# EAGLE library part MEGAARDUINO_1 (library Arduino)
The Arduino Mega is a microcontroller board based on the ATmega1280. - 54 digital input/output pins (of which 14 can be used as PWM outputs) - 16 analog inputs - 4 UARTs (hardware serial ports) - 16 MHz crystal oscillator - USB connection - power jack - ICSP header - reset button It contains everything needed to support the microcontroller; simply connect it to a computer with a USB cable or power it with a AC-to-DC adapter or battery to get started. The Mega is compatible with most shields designed for the Arduino Duemilanove or Diecimila. http://arduino.cc/en/Main/ArduinoBoardMega
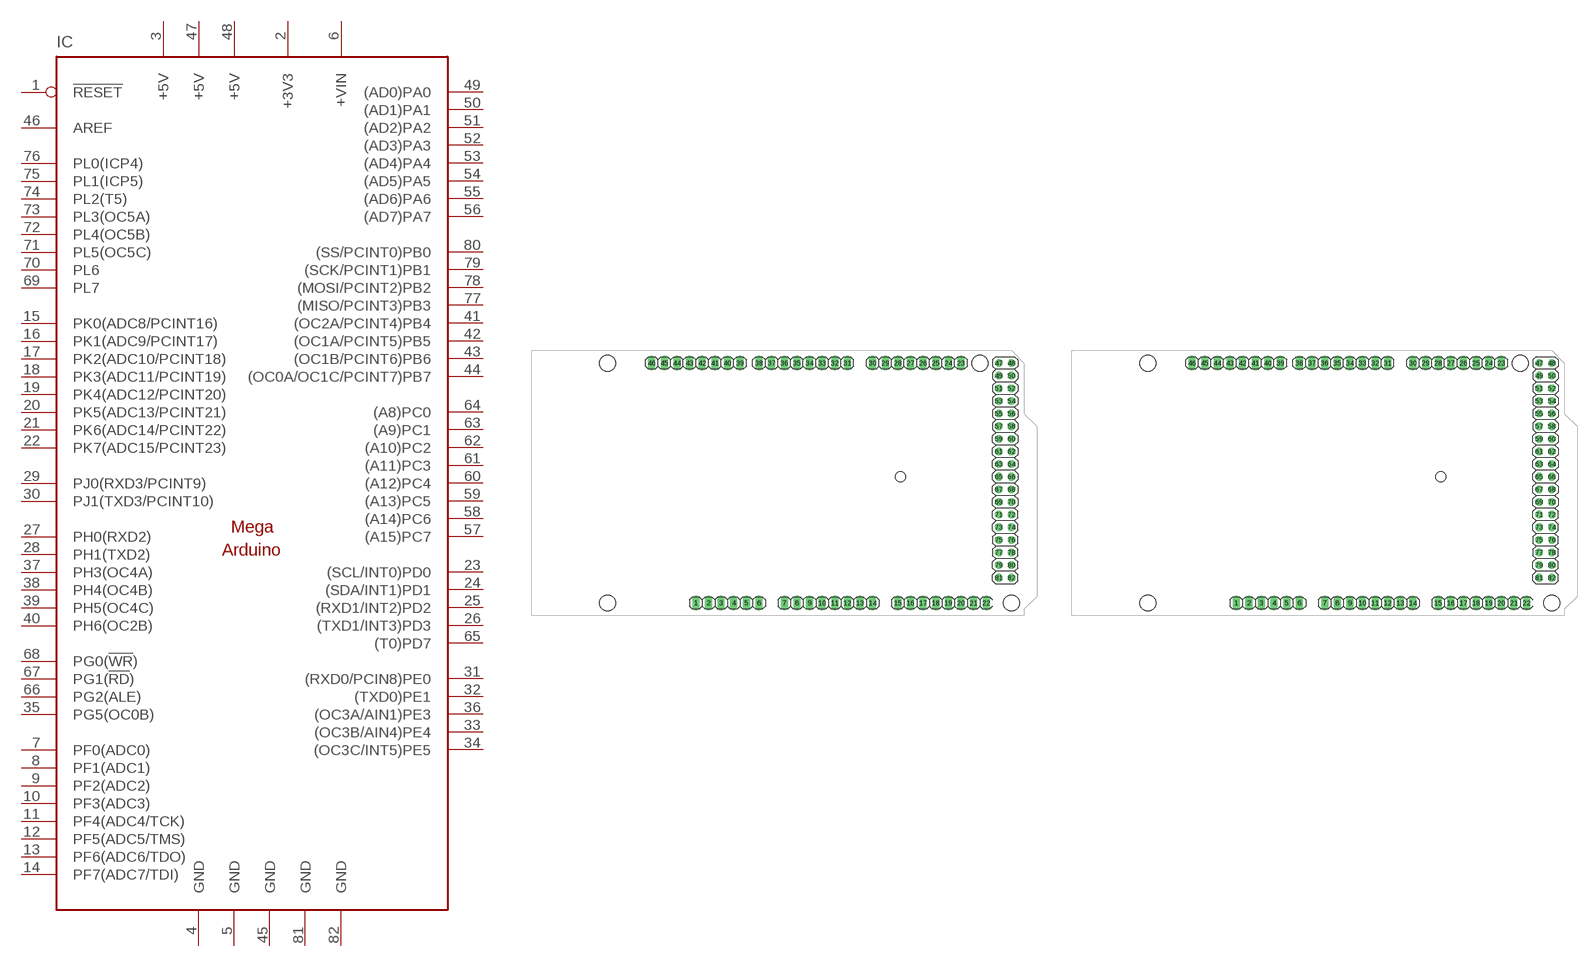
[diagram p4: symbol with the pads of MEGA_ARDUINO; footprints MEGA_ARDUINO, MEGA_ARDUINO_1]

Designator prefix IC

## MEGAARDUINO_1  [MEGA_ARDUINO]
1  !RESET
2  +3V3  pwr
3  +5V  pwr
4  GND  pwr
5  GND  pwr
6  +VIN  pwr
7  PF0(ADC0)
8  PF1(ADC1)
9  PF2(ADC2)
10  PF3(ADC3)
11  PF4(ADC4/TCK)
12  PF5(ADC5/TMS)
13  PF6(ADC6/TDO)
14  PF7(ADC7/TDI)
15  PK0(ADC8/PCINT16)
16  PK1(ADC9/PCINT17)
17  PK2(ADC10/PCINT18)
18  PK3(ADC11/PCINT19)
19  PK4(ADC12/PCINT20)
20  PK5(ADC13/PCINT21)
21  PK6(ADC14/PCINT22)
22  PK7(ADC15/PCINT23)
23  (SCL/INT0)PD0
24  (SDA/INT1)PD1
25  (RXD1/INT2)PD2
26  (TXD1/INT3)PD3
27  PH0(RXD2)
28  PH1(TXD2)
29  PJ0(RXD3/PCINT9)
30  PJ1(TXD3/PCINT10)
31  (RXD0/PCIN8)PE0
32  (TXD0)PE1
33  (OC3B/AIN4)PE4
34  (OC3C/INT5)PE5
35  PG5(OC0B)
36  (OC3A/AIN1)PE3
37  PH3(OC4A)
38  PH4(OC4B)
39  PH5(OC4C)
40  PH6(OC2B)
41  (OC2A/PCINT4)PB4
42  (OC1A/PCINT5)PB5
43  (OC1B/PCINT6)PB6
44  (OC0A/OC1C/PCINT7)PB7
45  GND  pwr
46  AREF
47  +5V  pwr
48  +5V  pwr
49  (AD0)PA0
50  (AD1)PA1
51  (AD2)PA2
52  (AD3)PA3
53  (AD4)PA4
54  (AD5)PA5
55  (AD6)PA6
56  (AD7)PA7
57  (A15)PC7
58  (A14)PC6
59  (A13)PC5
60  (A12)PC4
61  (A11)PC3
62  (A10)PC2
63  (A9)PC1
64  (A8)PC0
65  (T0)PD7
66  PG2(ALE)
67  PG1(!RD!)
68  PG0(!WR!)
69  PL7
70  PL6
71  PL5(OC5C)
72  PL4(OC5B)
73  PL3(OC5A)
74  PL2(T5)
75  PL1(ICP5)
76  PL0(ICP4)
77  (MISO/PCINT3)PB3
78  (MOSI/PCINT2)PB2
79  (SCK/PCINT1)PB1
80  (SS/PCINT0)PB0
81  GND  pwr
82  GND  pwr

## MEGAARDUINO_11  [MEGA_ARDUINO_1]
Pads as for MEGA_ARDUINO

## MEGAARDUINO_12  [MEGA_ARDUINO_2]
Pads as for MEGA_ARDUINO

## Footprint MEGA_ARDUINO (pad centres in mm)
drill 1.016 long: 1 33.02,2.54; 2 35.56,2.54; 3 38.1,2.54; 4 40.64,2.54; 5 43.18,2.54; 6 45.72,2.54; 7 50.8,2.54; 8 53.34,2.54; 9 55.88,2.54; 10 58.42,2.54; 11 60.96,2.54; 12 63.5,2.54; 13 66.04,2.54; 14 68.58,2.54; 15 73.66,2.54; 16 76.2,2.54; 17 78.74,2.54; 18 81.28,2.54; 19 83.82,2.54; 20 86.36,2.54; 21 88.9,2.54; 22 91.44,2.54; 23 86.36,50.8; 24 83.82,50.8; 25 81.28,50.8; 26 78.74,50.8; 27 76.2,50.8; 28 73.66,50.8; 29 71.12,50.8; 30 68.58,50.8; 31 63.5,50.8; 32 60.96,50.8; 33 58.42,50.8; 34 55.88,50.8; 35 53.34,50.8; 36 50.8,50.8; 37 48.26,50.8; 38 45.72,50.8; 39 41.91,50.8; 40 39.37,50.8; 41 36.83,50.8; 42 34.29,50.8; 43 31.75,50.8; 44 29.21,50.8; 45 26.67,50.8; 46 24.13,50.8
drill 1.016 octagon: 47 93.98,50.8; 48 96.52,50.8; 49 93.98,48.26; 50 96.52,48.26; 51 93.98,45.72; 52 96.52,45.72; 53 93.98,43.18; 54 96.52,43.18; 55 93.98,40.64; 56 96.52,40.64; 57 93.98,38.1; 58 96.52,38.1; 59 93.98,35.56; 60 96.52,35.56; 61 93.98,33.02; 62 96.52,33.02; 63 93.98,30.48; 64 96.52,30.48; 65 93.98,27.94; 66 96.52,27.94; 67 93.98,25.4; 68 96.52,25.4; 69 93.98,22.86; 70 96.52,22.86; 71 93.98,20.32; 72 96.52,20.32; 73 93.98,17.78; 74 96.52,17.78; 75 93.98,15.24; 76 96.52,15.24; 77 93.98,12.7; 78 96.52,12.7; 79 93.98,10.16; 80 96.52,10.16; 81 93.98,7.62; 82 96.52,7.62
hole 3.2 at 15.24,50.8
hole 3.2 at 15.24,2.54
hole 3.2 at 90.17,50.8
hole 3.2 at 96.52,2.54
hole 2 at 74.168,27.94

## Footprint MEGA_ARDUINO_1 (pad centres in mm)
drill 1.016 long: 1 33.02,2.54; 2 35.56,2.54; 3 38.1,2.54; 4 40.64,2.54; 5 43.18,2.54; 6 45.72,2.54; 7 50.8,2.54; 8 53.34,2.54; 9 55.88,2.54; 10 58.42,2.54; 11 60.96,2.54; 12 63.5,2.54; 13 66.04,2.54; 14 68.58,2.54; 15 73.66,2.54; 16 76.2,2.54; 17 78.74,2.54; 18 81.28,2.54; 19 83.82,2.54; 20 86.36,2.54; 21 88.9,2.54; 22 91.44,2.54; 23 86.36,50.8; 24 83.82,50.8; 25 81.28,50.8; 26 78.74,50.8; 27 76.2,50.8; 28 73.66,50.8; 29 71.12,50.8; 30 68.58,50.8; 31 63.5,50.8; 32 60.96,50.8; 33 58.42,50.8; 34 55.88,50.8; 35 53.34,50.8; 36 50.8,50.8; 37 48.26,50.8; 38 45.72,50.8; 39 41.91,50.8; 40 39.37,50.8; 41 36.83,50.8; 42 34.29,50.8; 43 31.75,50.8; 44 29.21,50.8; 45 26.67,50.8; 46 24.13,50.8
drill 1.016 octagon: 47 93.98,50.8; 48 96.52,50.8; 49 93.98,48.26; 50 96.52,48.26; 51 93.98,45.72; 52 96.52,45.72; 53 93.98,43.18; 54 96.52,43.18; 55 93.98,40.64; 56 96.52,40.64; 57 93.98,38.1; 58 96.52,38.1; 59 93.98,35.56; 60 96.52,35.56; 61 93.98,33.02; 62 96.52,33.02; 63 93.98,30.48; 64 96.52,30.48; 65 93.98,27.94; 66 96.52,27.94; 67 93.98,25.4; 68 96.52,25.4; 69 93.98,22.86; 70 96.52,22.86; 71 93.98,20.32; 72 96.52,20.32; 73 93.98,17.78; 74 96.52,17.78; 75 93.98,15.24; 76 96.52,15.24; 77 93.98,12.7; 78 96.52,12.7; 79 93.98,10.16; 80 96.52,10.16; 81 93.98,7.62; 82 96.52,7.62
hole 3.2 at 15.24,50.8
hole 3.2 at 15.24,2.54
hole 3.2 at 90.17,50.8
hole 3.2 at 96.52,2.54
hole 2 at 74.168,27.94

## Footprint MEGA_ARDUINO_2 (pad centres in mm)
drill 1.016 long: 1 33.02,2.54; 2 35.56,2.54; 3 38.1,2.54; 4 40.64,2.54; 5 43.18,2.54; 6 45.72,2.54; 7 50.8,2.54; 8 53.34,2.54; 9 55.88,2.54; 10 58.42,2.54; 11 60.96,2.54; 12 63.5,2.54; 13 66.04,2.54; 14 68.58,2.54; 15 73.66,2.54; 16 76.2,2.54; 17 78.74,2.54; 18 81.28,2.54; 19 83.82,2.54; 20 86.36,2.54; 21 88.9,2.54; 22 91.44,2.54; 23 86.36,50.8; 24 83.82,50.8; 25 81.28,50.8; 26 78.74,50.8; 27 76.2,50.8; 28 73.66,50.8; 29 71.12,50.8; 30 68.58,50.8; 31 63.5,50.8; 32 60.96,50.8; 33 58.42,50.8; 34 55.88,50.8; 35 53.34,50.8; 36 50.8,50.8; 37 48.26,50.8; 38 45.72,50.8; 39 41.91,50.8; 40 39.37,50.8; 41 36.83,50.8; 42 34.29,50.8; 43 31.75,50.8; 44 29.21,50.8; 45 26.67,50.8; 46 24.13,50.8
drill 1.016 octagon: 47 93.98,50.8; 48 96.52,50.8; 49 93.98,48.26; 50 96.52,48.26; 51 93.98,45.72; 52 96.52,45.72; 53 93.98,43.18; 54 96.52,43.18; 55 93.98,40.64; 56 96.52,40.64; 57 93.98,38.1; 58 96.52,38.1; 59 93.98,35.56; 60 96.52,35.56; 61 93.98,33.02; 62 96.52,33.02; 63 93.98,30.48; 64 96.52,30.48; 65 93.98,27.94; 66 96.52,27.94; 67 93.98,25.4; 68 96.52,25.4; 69 93.98,22.86; 70 96.52,22.86; 71 93.98,20.32; 72 96.52,20.32; 73 93.98,17.78; 74 96.52,17.78; 75 93.98,15.24; 76 96.52,15.24; 77 93.98,12.7; 78 96.52,12.7; 79 93.98,10.16; 80 96.52,10.16; 81 93.98,7.62; 82 96.52,7.62
hole 3.2 at 15.24,50.8
hole 3.2 at 15.24,2.54
hole 3.2 at 90.17,50.8
hole 3.2 at 96.52,2.54